# EAGLE library part LT3501 (library ic-LT)
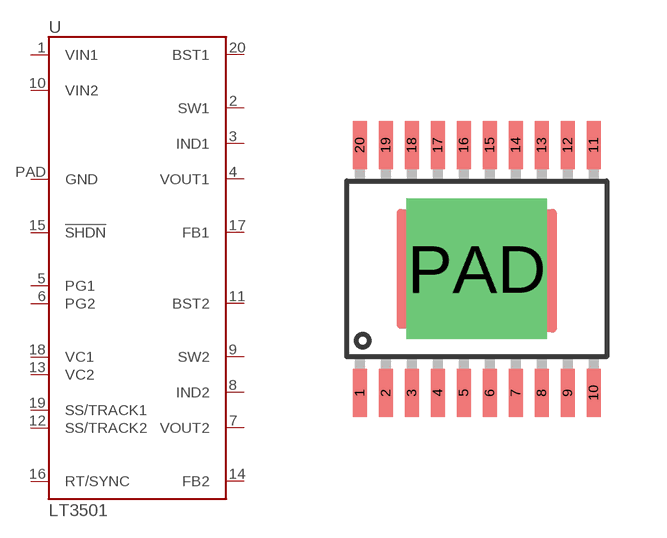
[diagram p10: symbol with the pads of TSSOP20-PAD; footprint TSSOP20-PAD]

Designator prefix U

## LT3501  [TSSOP20-PAD]
1  VIN1
2  SW1
3  IND1
4  VOUT1
5  PG1
6  PG2
7  VOUT2
8  IND2
9  SW2
10  VIN2
11  BST2
12  SS/TRACK2
13  VC2
14  FB2
15  !SHDN
16  RT/SYNC
17  FB1
18  VC1
19  SS/TRACK1
20  BST1
PAD  GND

## Footprint TSSOP20-PAD (pad centres in mm)
smd 0.35 x 1.2: 1 -2.925,-3.1; 2 -2.275,-3.1; 3 -1.625,-3.1; 4 -0.975,-3.1; 5 -0.325,-3.1; 6 0.325,-3.1; 7 0.975,-3.1; 8 1.625,-3.1; 9 2.275,-3.1; 10 2.925,-3.1; 11 2.925,3.1; 12 2.275,3.1; 13 1.625,3.1; 14 0.975,3.1; 15 0.325,3.1; 16 -0.325,3.1; 17 -0.975,3.1; 18 -1.625,3.1; 19 -2.275,3.1; 20 -2.925,3.1
drill 2.5 pad 3 square: PAD 0,0